# EAGLE library part LM386 (library ieee_rec)
DIP 08 Package
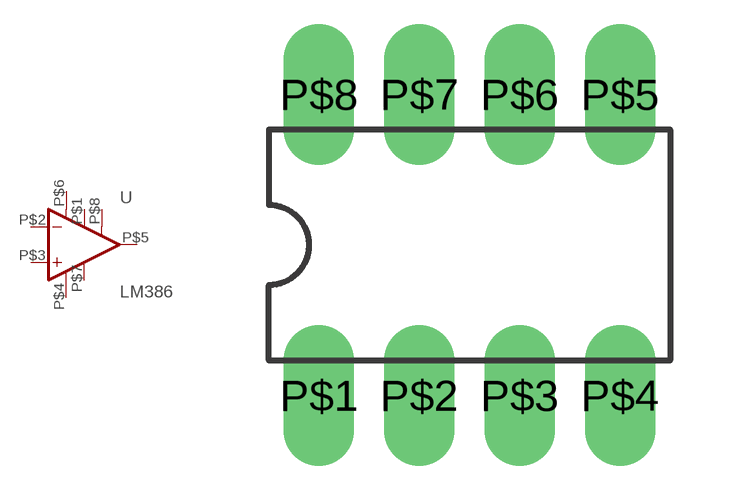
[diagram p1: symbol with the pads of DIL08; footprint DIL08]

Designator prefix -

## LM386  [DIL08]
P$1  GAIN
P$2  -IN  in
P$3  +IN  in
P$4  V-  pwr
P$5  OUT  out
P$6  V+  pwr
P$7  BP
P$8  GAIN

## Footprint DIL08 (pad centres in mm)
Dual In Line Package
drill 0.9 pad 1.778 long: P$1 -3.81,-3.81; P$2 -1.27,-3.81; P$3 1.27,-3.81; P$4 3.81,-3.81; P$5 3.81,3.81; P$6 1.27,3.81; P$7 -1.27,3.81; P$8 -3.81,3.81